# Altium footprint library __ui.PcbLib: 90 footprints (part 3 of 6)
Each footprint in its own frame and in the unit in brackets; x right, y up, seen from the top. Pads: shape width x height; smd on the part's side, far side on the other; paste and mask are expansions set on the pad; w line width, h text height; cw(c..) or ccw(c..) is an arc to the next point about the centre after c.
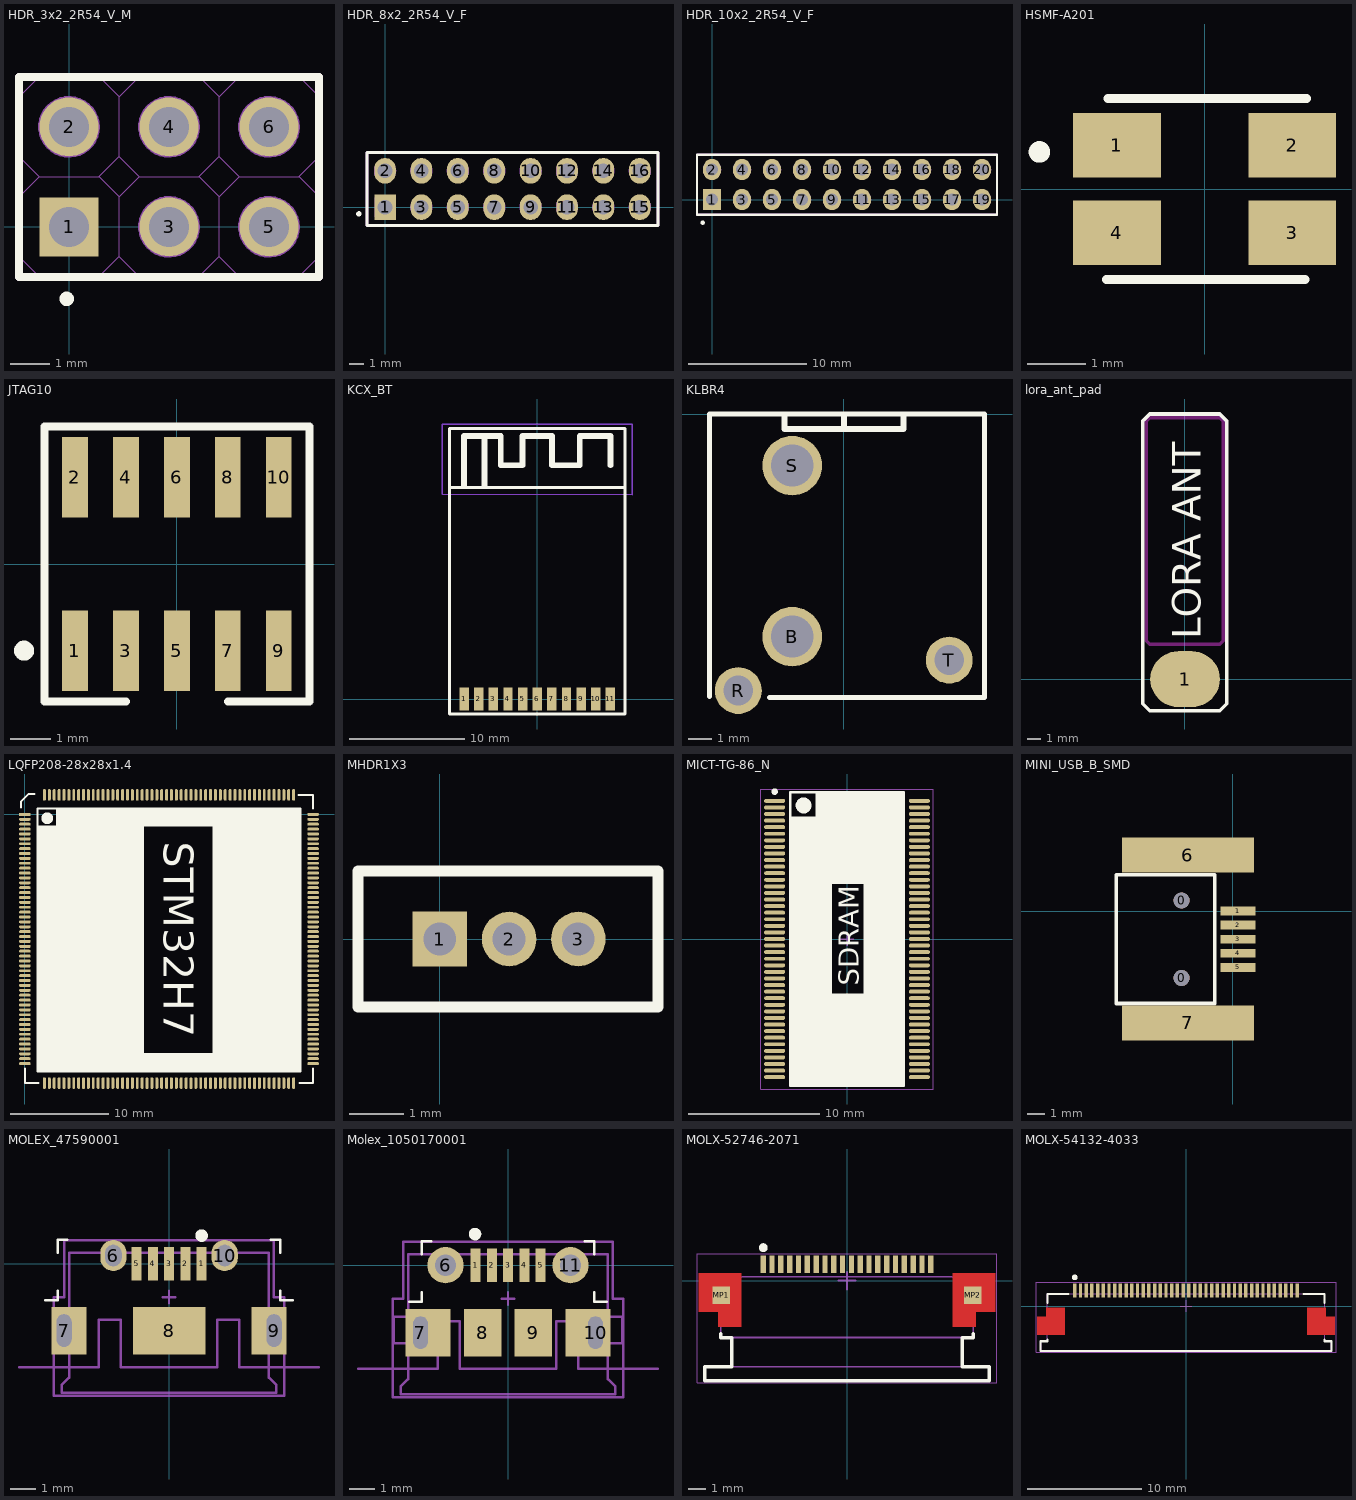
[diagram p2: the footprints below, top view; thin cyan lines are the x and y axes]

## HDR_3x2_2R54_V_M [mm] "Male Header, Pitch 2.54mm, 2x3 Position, Mated Height 6mm, Tail Length 3mm"
height 6
pads (6):
  rect 1.5x1.5 hole 1.02: 1(0,0)
  round 1.5 hole 1.02: 2(0,2.54) 3(2.54,0) 4(2.54,2.54) 5(5.08,0) 6(5.08,2.54)
Top Overlay:
  circle w0.25: c-0.059,-1.829 r0.059
  lines w0.2: -1.27,-1.27 -1.27,3.81 6.35,3.81 6.35,-1.27 -1.27,-1.27
Mechanical 7:
  circle w0.2: c2.54,0 r0.684
  circle w0.2: c5.08,0 r0.684
  circle w0.2: c5.08,2.54 r0.684
  circle w0.2: c2.54,2.54 r0.684
  circle w0.2: c0,2.54 r0.684
  lines w0.2: -1.27,-1.27 -1.27,3.81 6.35,3.81 6.35,-1.27 -1.27,-1.27 ; -0.635,-0.635 -0.635,0.635 0.635,0.635 0.635,-0.635 -0.635,-0.635
Mechanical 13:
  lines w0.025: 6.35,-0.762 5.842,-1.27 ; 6.35,0.762 5.842,1.27 ; 6.35,1.778 5.842,1.27 ; 6.35,3.302 5.842,3.81 4.318,3.81 3.81,3.302 ; -1.27,-0.762 -1.27,0.762 ; -1.27,-0.762 -1.27,0.762 ; -1.27,-0.762 -0.762,-1.27 ; -1.27,0.762 -0.762,1.27 ; -1.27,1.778 -0.762,1.27 ; -1.27,1.778 -1.27,3.302 ; -1.27,1.778 -1.27,3.302 ; -1.27,3.302 -0.762,3.81 0.762,3.81 1.27,3.302 ; -0.762,-1.27 0.762,-1.27 ; -0.762,-1.27 0.762,-1.27 ; -0.762,1.27 0.762,1.27 ; -0.762,1.27 0.762,1.27 ; -0.762,1.27 0.762,1.27 ; 0.762,-1.27 1.27,-0.762 ; 0.762,1.27 1.27,0.762 ; 0.762,1.27 1.27,1.778 ; 1.27,-0.762 1.27,0.762 ; 1.27,-0.762 1.27,0.762 ; 1.27,-0.762 1.27,0.762 ; 1.27,-0.762 1.27,0.762 ; 1.27,-0.762 1.778,-1.27 ; 1.27,0.762 1.778,1.27 ; 1.27,1.778 1.778,1.27 ; 1.27,1.778 1.27,3.302 ; 1.27,1.778 1.27,3.302 ; 1.27,1.778 1.27,3.302 ; 1.27,1.778 1.27,3.302 ; 1.27,3.302 1.778,3.81 3.302,3.81 3.81,3.302 ; 1.778,-1.27 3.302,-1.27 ; 1.778,-1.27 3.302,-1.27 ; 1.778,1.27 3.302,1.27 ; 1.778,1.27 3.302,1.27 ; 1.778,1.27 3.302,1.27 ; 3.302,-1.27 3.81,-0.762 ; 3.302,1.27 3.81,0.762 ; 3.302,1.27 3.81,1.778 ; 3.81,-0.762 3.81,0.762 ; 3.81,-0.762 3.81,0.762 ; 3.81,-0.762 3.81,0.762 ; 3.81,-0.762 3.81,0.762 ; 3.81,-0.762 4.318,-1.27 ; 3.81,0.762 4.318,1.27 ; 3.81,1.778 4.318,1.27 ; 3.81,1.778 3.81,3.302 ; 3.81,1.778 3.81,3.302 ; 3.81,1.778 3.81,3.302 ; 3.81,1.778 3.81,3.302 ; 4.318,-1.27 5.842,-1.27 ; 4.318,-1.27 5.842,-1.27 ; 4.318,1.27 5.842,1.27 ; 4.318,1.27 5.842,1.27 ; 4.318,1.27 5.842,1.27
3D body: height 2.54, standoff 0, extent -1.27,-1.27 1.27,1.27
3D body: height 2.54, standoff 0, extent 1.27,-1.27 3.81,1.27
3D body: height 2.54, standoff 0, extent 3.81,-1.27 6.35,1.27
3D body: height 2.54, standoff 0, extent 3.81,1.27 6.35,3.81
3D body: height 2.54, standoff 0, extent 1.27,1.27 3.81,3.81
3D body: height 2.54, standoff 0, extent -1.27,1.27 1.27,3.81
3D body: height 9, standoff -2.54, extent -0.349,-0.349 0.349,0.349
3D body: height 9, standoff -2.54, extent 2.191,-0.349 2.889,0.349
3D body: height 9, standoff -2.54, extent 4.731,-0.349 5.429,0.349
3D body: height 9, standoff -2.54, extent -0.349,2.191 0.349,2.889
3D body: height 9, standoff -2.54, extent 2.191,2.191 2.889,2.889
3D body: height 9, standoff -2.54, extent 4.731,2.191 5.429,2.889

## HDR_8x2_2R54_V_F [mm] "Female Header, Pitch 2.54mm, 2x8 Position, Mated Height 6mm, Tail Length 3mm"
height 6
pads (16):
  rect 1.5x1.8 hole 1.02: 1(0,0)
  oval 1.5x1.8 hole 1.02: 2(0,2.54) 3(2.54,0) 4(2.54,2.54) 5(5.08,0) 6(5.08,2.54) 7(7.62,0) 8(7.62,2.54) 9(10.16,0) 10(10.16,2.54) 11(12.7,0) 12(12.7,2.54) 13(15.24,0) 14(15.24,2.54) 15(17.78,0) 16(17.78,2.54)
Top Overlay:
  circle w0.25: c-1.829,-0.465 r0.059
  lines w0.2: -1.27,-1.27 19.05,-1.27 19.05,3.81 -1.27,3.81 -1.27,-1.27
Mechanical 7:
  circle w0.2: c0,2.54 r0.684
  circle w0.2: c2.54,2.54 r0.684
  circle w0.2: c5.08,2.54 r0.684
  circle w0.2: c7.62,2.54 r0.684
  circle w0.2: c10.16,2.54 r0.684
  circle w0.2: c12.7,2.54 r0.684
  circle w0.2: c12.7,0 r0.684
  circle w0.2: c10.16,0 r0.684
  circle w0.2: c7.62,0 r0.684
  circle w0.2: c5.08,0 r0.684
  circle w0.2: c2.54,0 r0.684
  circle w0.2: c15.24,0 r0.684
  circle w0.2: c17.78,0 r0.684
  circle w0.2: c17.78,2.54 r0.684
  circle w0.2: c15.24,2.54 r0.684
  lines w0.2: -1.27,-1.27 19.05,-1.27 19.05,3.81 -1.27,3.81 -1.27,-1.27 ; -0.635,-0.635 0.635,-0.635 0.635,0.635 -0.635,0.635 -0.635,-0.635
3D body: height 2.54, standoff -10, extent -0.349,-0.349 0.349,0.349
3D body: height 8.64, standoff 0, extent -1.268,-1.27 1.272,1.27
3D body: height 2.54, standoff -10, extent -0.349,2.191 0.349,2.889
3D body: height 8.64, standoff 0, extent -1.268,1.27 1.272,3.81
3D body: height 2.54, standoff -10, extent 2.191,2.191 2.889,2.889
3D body: height 8.64, standoff 0, extent 1.272,1.27 3.812,3.81
3D body: height 2.54, standoff -10, extent 2.191,-0.349 2.889,0.349
3D body: height 8.64, standoff 0, extent 1.272,-1.27 3.812,1.27
3D body: height 2.54, standoff -10, extent 4.731,2.191 5.429,2.889
3D body: height 8.64, standoff 0, extent 3.812,1.27 6.352,3.81
3D body: height 2.54, standoff -10, extent 4.731,-0.349 5.429,0.349
3D body: height 8.64, standoff 0, extent 3.812,-1.27 6.352,1.27
3D body: height 2.54, standoff -10, extent 7.271,2.191 7.969,2.889
3D body: height 8.64, standoff 0, extent 6.352,1.27 8.892,3.81
3D body: height 2.54, standoff -10, extent 7.271,-0.349 7.969,0.349
3D body: height 8.64, standoff 0, extent 6.352,-1.27 8.892,1.27
3D body: height 2.54, standoff -10, extent 9.811,-0.349 10.509,0.349
3D body: height 8.64, standoff 0, extent 8.892,-1.27 11.432,1.27
3D body: height 2.54, standoff -10, extent 9.811,2.191 10.509,2.889
3D body: height 8.64, standoff 0, extent 8.892,1.27 11.432,3.81
3D body: height 2.54, standoff -10, extent 12.351,2.191 13.049,2.889
3D body: height 8.64, standoff 0, extent 11.432,1.27 13.972,3.81
3D body: height 2.54, standoff -10, extent 12.351,-0.349 13.049,0.349
3D body: height 8.64, standoff 0, extent 11.432,-1.27 13.972,1.27
3D body: height 8.64, standoff 0, extent 16.512,-1.27 19.052,1.27
3D body: height 2.54, standoff -10, extent 17.431,-0.349 18.129,0.349
3D body: height 8.64, standoff 0, extent 16.512,1.27 19.052,3.81
3D body: height 2.54, standoff -10, extent 17.431,2.191 18.129,2.889
3D body: height 8.64, standoff 0, extent 13.972,1.27 16.512,3.81
3D body: height 2.54, standoff -10, extent 14.891,2.191 15.589,2.889
3D body: height 8.64, standoff 0, extent 13.972,-1.27 16.512,1.27
3D body: height 2.54, standoff -10, extent 14.891,-0.349 15.589,0.349

## HDR_10x2_2R54_V_F [mm] "Female Header, Pitch 2.54mm, 2x8 Position, Mated Height 6mm, Tail Length 3mm"
height 6
pads (20):
  rect 1.5x1.8 hole 1.02: 1(0,0)
  oval 1.5x1.8 hole 1.02: 2(0,2.54) 3(2.54,0) 4(2.54,2.54) 5(5.08,0) 6(5.08,2.54) 7(7.62,0) 8(7.62,2.54) 9(10.16,0) 10(10.16,2.54) 11(12.7,0) 12(12.7,2.54) 13(15.24,0) 14(15.24,2.54) 15(17.78,0) 16(17.78,2.54) 17(20.32,0) 18(20.32,2.54) 19(22.86,0) 20(22.86,2.54)
Top Overlay:
  circle w0.25: c-0.787,-1.96 r0.059
  lines w0.2: -1.27,-1.27 24.13,-1.27 24.13,3.81 -1.27,3.81 -1.27,-1.27
Mechanical 7:
  circle w0.2: c22.86,0 r0.684
  circle w0.2: c22.86,2.54 r0.684
  circle w0.2: c0,2.54 r0.684
  circle w0.2: c2.54,2.54 r0.684
  circle w0.2: c5.08,2.54 r0.684
  circle w0.2: c7.62,2.54 r0.684
  circle w0.2: c10.16,2.54 r0.684
  circle w0.2: c12.7,2.54 r0.684
  circle w0.2: c12.7,0 r0.684
  circle w0.2: c10.16,0 r0.684
  circle w0.2: c7.62,0 r0.684
  circle w0.2: c5.08,0 r0.684
  circle w0.2: c2.54,0 r0.684
  circle w0.2: c15.24,0 r0.684
  circle w0.2: c17.78,0 r0.684
  circle w0.2: c17.78,2.54 r0.684
  circle w0.2: c15.24,2.54 r0.684
  circle w0.2: c20.32,2.54 r0.684
  circle w0.2: c20.32,0 r0.684
  lines w0.2: -1.27,-1.27 24.13,-1.27 24.13,3.81 -1.27,3.81 -1.27,-1.27 ; -0.635,-0.635 0.635,-0.635 0.635,0.635 -0.635,0.635 -0.635,-0.635
3D body: height 8.64, standoff 0, extent 21.592,-1.27 24.132,1.27
3D body: height 2.54, standoff -10, extent 22.511,-0.349 23.209,0.349
3D body: height 8.64, standoff 0, extent 21.592,1.27 24.132,3.81
3D body: height 2.54, standoff -10, extent 22.511,2.191 23.209,2.889
3D body: height 2.54, standoff -10, extent -0.349,-0.349 0.349,0.349
3D body: height 8.64, standoff 0, extent -1.268,-1.27 1.272,1.27
3D body: height 2.54, standoff -10, extent -0.349,2.191 0.349,2.889
3D body: height 8.64, standoff 0, extent -1.268,1.27 1.272,3.81
3D body: height 2.54, standoff -10, extent 2.191,2.191 2.889,2.889
3D body: height 8.64, standoff 0, extent 1.272,1.27 3.812,3.81
3D body: height 2.54, standoff -10, extent 2.191,-0.349 2.889,0.349
3D body: height 8.64, standoff 0, extent 1.272,-1.27 3.812,1.27
3D body: height 2.54, standoff -10, extent 4.731,2.191 5.429,2.889
3D body: height 8.64, standoff 0, extent 3.812,1.27 6.352,3.81
3D body: height 2.54, standoff -10, extent 4.731,-0.349 5.429,0.349
3D body: height 8.64, standoff 0, extent 3.812,-1.27 6.352,1.27
3D body: height 2.54, standoff -10, extent 7.271,2.191 7.969,2.889
3D body: height 8.64, standoff 0, extent 6.352,1.27 8.892,3.81
3D body: height 2.54, standoff -10, extent 7.271,-0.349 7.969,0.349
3D body: height 8.64, standoff 0, extent 6.352,-1.27 8.892,1.27
3D body: height 2.54, standoff -10, extent 9.811,-0.349 10.509,0.349
3D body: height 8.64, standoff 0, extent 8.892,-1.27 11.432,1.27
3D body: height 2.54, standoff -10, extent 9.811,2.191 10.509,2.889
3D body: height 8.64, standoff 0, extent 8.892,1.27 11.432,3.81
3D body: height 2.54, standoff -10, extent 12.351,2.191 13.049,2.889
3D body: height 8.64, standoff 0, extent 11.432,1.27 13.972,3.81
3D body: height 2.54, standoff -10, extent 12.351,-0.349 13.049,0.349
3D body: height 8.64, standoff 0, extent 11.432,-1.27 13.972,1.27
3D body: height 8.64, standoff 0, extent 16.512,-1.27 19.052,1.27
3D body: height 2.54, standoff -10, extent 17.431,-0.349 18.129,0.349
3D body: height 8.64, standoff 0, extent 16.512,1.27 19.052,3.81
3D body: height 2.54, standoff -10, extent 17.431,2.191 18.129,2.889
3D body: height 8.64, standoff 0, extent 13.972,1.27 16.512,3.81
3D body: height 2.54, standoff -10, extent 14.891,2.191 15.589,2.889
3D body: height 8.64, standoff 0, extent 13.972,-1.27 16.512,1.27
3D body: height 2.54, standoff -10, extent 14.891,-0.349 15.589,0.349
3D body: height 2.54, standoff -10, extent 19.971,2.191 20.669,2.889
3D body: height 8.64, standoff 0, extent 19.052,1.27 21.592,3.81
3D body: height 2.54, standoff -10, extent 19.971,-0.349 20.669,0.349
3D body: height 8.64, standoff 0, extent 19.052,-1.27 21.592,1.27

## HSMF-A201 [mm] "LED"
height 1.2
pads (4):
  rect 1.5x1.1 smd: 1(-1.5,0.75) 2(1.5,0.75) 3(1.5,-0.75) 4(-1.5,-0.75)
Top Overlay:
  circle w0.25: c-2.827,0.635 r0.059
  lines w0.152: -1.676,-1.549 1.724,-1.549 ; -1.651,1.549 1.749,1.549
3D body: height 1.2, standoff 0.1, extent -1.6,-1.4 1.6,1.4

## JTAG10 [mm]
height 6
pads (10):
  rect 0.64x2 smd: 1(-2.54,-2.159) 2(-2.54,2.159) 3(-1.27,-2.159) 4(-1.27,2.159) 5(0,-2.159) 6(0,2.159) 7(1.27,-2.159) 8(1.27,2.159) 9(2.54,-2.159) 10(2.54,2.159)
Top Overlay:
  circle w0.25: c-3.81,-2.159 r0.125
  lines w0.2: -1.27,-3.429 -1.905,-3.429 -3.302,-3.429 -3.302,3.429 3.302,3.429 3.302,-3.429 1.27,-3.429

## KCX_BT [mm]
pads (11):
  rect 0.813x2 smd: 1(-6.352,0.034) 2(-5.082,0.034) 3(-3.812,0.034) 4(-2.542,0.034) 5(-1.272,0.034) 6(-0.002,0.034) 7(1.268,0.034) 8(2.538,0.034) 9(3.808,0.034) 10(5.078,0.034) 11(6.348,0.034)
Top Layer keep-out:
  lines w0.127: -8.255,17.782 8.255,17.776 8.255,23.869 -8.255,23.875 -8.255,17.782
Bottom Layer keep-out:
  lines w0.127: -8.255,17.782 8.255,17.776 8.255,23.869 -8.255,23.875 -8.255,17.782
Top Overlay:
  lines w0.254: -7.62,18.391 7.62,18.391 ; -7.62,-1.27 7.62,-1.27 7.62,17.941 7.62,20.135 7.62,23.495 -7.62,23.495 -7.62,21.185 -7.62,16.637 -7.62,0.254 -7.62,-1.27
  lines w0.508: -6.35,18.542 -6.35,22.86 -3.175,22.86 -3.175,20.32 -1.27,20.32 -1.27,22.86 1.27,22.86 1.27,20.32 3.683,20.32 3.683,22.86 4.953,22.86 ; -4.572,18.542 -4.572,22.86 ; 4.445,22.86 6.35,22.86 6.35,20.32
Keep-Out Layer:
  region: -13.335,24.765

## KLBR4 [mm] "Lumberg KLBR4 phones receptacle"
height 6
pads (4):
  round 2.54 hole 1.8: B(-2.2,-9.5) S(-2.2,-2.2)
  round 2 hole 1.27: R(-4.5,-11.8) T(4.5,-10.5)
Top Overlay:
  lines w0.2: -5.729,-12.065 -5.729,0 ; -3.175,-12.092 6,-12.092 6,0 ; -5.729,0 6,0 ; -5.729,0 6,0
  lines w0.254: -2.54,-0.125 -2.54,-0.635 2.54,-0.635 2.54,-0.051 ; 0,-0.635 0,-0.06

## lora_ant_pad [mm]
pads (1):
  oval 5x4 smd: 1(0.022,0.006)
Top Overlay:
  lines w0.254: -3,-1.75 -2.5,-2.25 2.5,-2.25 3,-1.75 3,18.5 2.5,19 -2.5,19 -3,18.5 -3,-1.75
  text "LORA ANT" at 1.144,2.856 h2.03
Keep-Out Layer:
  lines w0.254: -2.75,2.75 -2.75,18.5 -2.5,18.75 2.5,18.75 2.75,18.5 2.75,2.75 2.5,2.5 -2.5,2.5 -2.75,2.75

## LQFP208-28x28x1.4 [mm]
pads (208):
  rect 1.2x0.3 smd: 1(0,0)
  oval 1.2x0.3 smd: 2(0,-0.5) 3(0,-1) 4(0,-1.5) 5(0,-2) 6(0,-2.5) 7(0,-3) 8(0,-3.5) 9(0,-4) 10(0,-4.5) 11(0,-5) 12(0,-5.5) 13(0,-6) 14(0,-6.5) 15(0,-7) 16(0,-7.5) 17(0,-8) 18(0,-8.5) 19(0,-9) 20(0,-9.5) 21(0,-10) 22(0,-10.5) 23(0,-11) 24(0,-11.5) 25(0,-12) 26(0,-12.5) 27(0,-13) 28(0,-13.5) 29(0,-14) 30(0,-14.5) 31(0,-15) 32(0,-15.5) 33(0,-16) 34(0,-16.5) 35(0,-17) 36(0,-17.5) 37(0,-18) 38(0,-18.5) 39(0,-19) 40(0,-19.5) 41(0,-20) 42(0,-20.5) 43(0,-21) 44(0,-21.5) 45(0,-22) 46(0,-22.5) 47(0,-23) 48(0,-23.5) 49(0,-24) 50(0,-24.5) 51(0,-25) 52(0,-25.5) 105(29.5,-25.5) 106(29.5,-25) 107(29.5,-24.5) 108(29.5,-24) 109(29.5,-23.5) 110(29.5,-23) 111(29.5,-22.5) 112(29.5,-22) 113(29.5,-21.5) 114(29.5,-21) 115(29.5,-20.5) 116(29.5,-20) 117(29.5,-19.5) 118(29.5,-19) 119(29.5,-18.5) 120(29.5,-18) 121(29.5,-17.5) 122(29.5,-17) 123(29.5,-16.5) 124(29.5,-16) 125(29.5,-15.5) 126(29.5,-15) 127(29.5,-14.5) 128(29.5,-14) 129(29.5,-13.5) 130(29.5,-13) 131(29.5,-12.5) 132(29.5,-12) 133(29.5,-11.5) 134(29.5,-11) 135(29.5,-10.5) 136(29.5,-10) 137(29.5,-9.5) 138(29.5,-9) 139(29.5,-8.5) 140(29.5,-8) 141(29.5,-7.5) 142(29.5,-7) 143(29.5,-6.5) 144(29.5,-6) 145(29.5,-5.5) 146(29.5,-5) 147(29.5,-4.5) 148(29.5,-4) 149(29.5,-3.5) 150(29.5,-3) 151(29.5,-2.5) 152(29.5,-2) 153(29.5,-1.5) 154(29.5,-1) 155(29.5,-0.5) 156(29.5,0)
  oval 0.3x1.2 smd: 53(2,-27.5) 54(2.5,-27.5) 55(3,-27.5) 56(3.5,-27.5) 57(4,-27.5) 58(4.5,-27.5) 59(5,-27.5) 60(5.5,-27.5) 61(6,-27.5) 62(6.5,-27.5) 63(7,-27.5) 64(7.5,-27.5) 65(8,-27.5) 66(8.5,-27.5) 67(9,-27.5) 68(9.5,-27.5) 69(10,-27.5) 70(10.5,-27.5) 71(11,-27.5) 72(11.5,-27.5) 73(12,-27.5) 74(12.5,-27.5) 75(13,-27.5) 76(13.5,-27.5) 77(14,-27.5) 78(14.5,-27.5) 79(15,-27.5) 80(15.5,-27.5) 81(16,-27.5) 82(16.5,-27.5) 83(17,-27.5) 84(17.5,-27.5) 85(18,-27.5) 86(18.5,-27.5) 87(19,-27.5) 88(19.5,-27.5) 89(20,-27.5) 90(20.5,-27.5) 91(21,-27.5) 92(21.5,-27.5) 93(22,-27.5) 94(22.5,-27.5) 95(23,-27.5) 96(23.5,-27.5) 97(24,-27.5) 98(24.5,-27.5) 99(25,-27.5) 100(25.5,-27.5) 101(26,-27.5) 102(26.5,-27.5) 103(27,-27.5) 104(27.5,-27.5) 157(27.5,2) 158(27,2) 159(26.5,2) 160(26,2) 161(25.5,2) 162(25,2) 163(24.5,2) 164(24,2) 165(23.5,2) 166(23,2) 167(22.5,2) 168(22,2) 169(21.5,2) 170(21,2) 171(20.5,2) 172(20,2) 173(19.5,2) 174(19,2) 175(18.5,2) 176(18,2) 177(17.5,2) 178(17,2) 179(16.5,2) 180(16,2) 181(15.5,2) 182(15,2) 183(14.5,2) 184(14,2) 185(13.5,2) 186(13,2) 187(12.5,2) 188(12,2) 189(11.5,2) 190(11,2) 191(10.5,2) 192(10,2) 193(9.5,2) 194(9,2) 195(8.5,2) 196(8,2) 197(7.5,2) 198(7,2) 199(6.5,2) 200(6,2) 201(5.5,2) 202(5,2) 203(4.5,2) 204(4,2) 205(3.5,2) 206(3,2) 207(2.5,2) 208(2,2)
Top Overlay:
  circle w0.6: c2.288,-0.391 r0.3
  rectangle: 19.177,-26.145 28.131,-0.999
  rectangle: 3.175,-26.264 28.194,-24.409
  rectangle: 3.175,-1.245 28.194,0.61
  rectangle: 1.27,-26.289 12.192,-1.143
  lines w0.2: -0.403,0.705 -0.403,1.305 0.397,2.105 0.997,2.105 ; 0,-27.5 1.4,-27.5 ; 0,-27.4 0,-26 ; 28,2 29.4,2 ; 28.1,-27.5 29.5,-27.5 ; 29.5,-27.4 29.5,-26 ; 29.5,0.6 29.5,2 ; 1.288,-26.289 28.194,-26.289 28.194,0.609 1.288,0.609 1.288,-26.289
  text "STM32H7" at 14.224,-2.794 h3.05

## MHDR1X3 [mm] "Connector; Header; 3 Position"
pads (3):
  rect 1x1 hole 0.6: 1(0,0)
  round 1 hole 0.6: 2(1.27,0) 3(2.54,0)
Top Overlay:
  lines w0.2: -1.5,-1.25 -1.5,1.25 4,1.25 4,-1.25 -1.5,-1.25

## MICT-TG-86_N [mm] "SOP, 86-Leads, Body 22.22x10.16mm, Pitch 0.5mm, IPC Medium Density"
height 1.2
pads (86):
  oval 1.6x0.3 smd: 1(-5.5,10.5) 2(-5.5,10) 3(-5.5,9.5) 4(-5.5,9) 5(-5.5,8.5) 6(-5.5,8) 7(-5.5,7.5) 8(-5.5,7) 9(-5.5,6.5) 10(-5.5,6) 11(-5.5,5.5) 12(-5.5,5) 13(-5.5,4.5) 14(-5.5,4) 15(-5.5,3.5) 16(-5.5,3) 17(-5.5,2.5) 18(-5.5,2) 19(-5.5,1.5) 20(-5.5,1) 21(-5.5,0.5) 22(-5.5,0) 23(-5.5,-0.5) 24(-5.5,-1) 25(-5.5,-1.5) 26(-5.5,-2) 27(-5.5,-2.5) 28(-5.5,-3) 29(-5.5,-3.5) 30(-5.5,-4) 31(-5.5,-4.5) 32(-5.5,-5) 33(-5.5,-5.5) 34(-5.5,-6) 35(-5.5,-6.5) 36(-5.5,-7) 37(-5.5,-7.5) 38(-5.5,-8) 39(-5.5,-8.5) 40(-5.5,-9) 41(-5.5,-9.5) 42(-5.5,-10) 43(-5.5,-10.5) 44(5.5,-10.5) 45(5.5,-10) 46(5.5,-9.5) 47(5.5,-9) 48(5.5,-8.5) 49(5.5,-8) 50(5.5,-7.5) 51(5.5,-7) 52(5.5,-6.5) 53(5.5,-6) 54(5.5,-5.5) 55(5.5,-5) 56(5.5,-4.5) 57(5.5,-4) 58(5.5,-3.5) 59(5.5,-3) 60(5.5,-2.5) 61(5.5,-2) 62(5.5,-1.5) 63(5.5,-1) 64(5.5,-0.5) 65(5.5,0) 66(5.5,0.5) 67(5.5,1) 68(5.5,1.5) 69(5.5,2) 70(5.5,2.5) 71(5.5,3) 72(5.5,3.5) 73(5.5,4) 74(5.5,4.5) 75(5.5,5) 76(5.5,5.5) 77(5.5,6) 78(5.5,6.5) 79(5.5,7) 80(5.5,7.5) 81(5.5,8) 82(5.5,8.5) 83(5.5,9) 84(5.5,9.5) 85(5.5,10) 86(5.5,10.5)
Top Overlay:
  circle w0.6: c-3.3,10.15 r0.3
  circle w0.25: c-5.5,11.2 r0.125
  rectangle: -2.413,9.296 4.318,11.151
  rectangle: -4.267,-11.125 -1.143,9.322
  rectangle: 1.27,-11.125 4.318,9.322
  rectangle: -1.346,-11.176 1.778,-4.14
  rectangle: -1.473,4.191 1.651,11.227
  lines w0.2: -4.3,-11.15 4.3,-11.15 4.3,11.15 -4.3,11.15 -4.3,-11.15
  text "SDRAM" at 0.889,-3.556 h1.52
Mechanical 15:
  lines w0.05: -6.55,-11.4 6.55,-11.4 6.55,11.4 -6.55,11.4 -6.55,-11.4
  lines w0.1: -0.5,0 0.5,0 ; 0,-0.5 0,0.5

## MINI_USB_B_SMD [mm]
pads (9):
  round 0.9 hole 0.9: 0(-2.9,-3.8) 0(-2.9,0.6)
  rect 2x0.5 smd: 1(0.3,0) 2(0.3,-0.8) 3(0.3,-1.6) 4(0.3,-2.4) 5(0.3,-3.2)
  rect 7.5x2 smd: 6(-2.54,3.175) 7(-2.54,-6.35)
Top Overlay:
  lines w0.203: -6.6,-5.25 -6.6,2.05 -1.016,2.05 -1.016,-5.25 -6.6,-5.25

## MOLEX_47590001 [mm] "USB Micro-B Connector"
height 2.667
pads (10):
  rect 0.4x1.35 smd: 1(1.3,0) 2(0.65,0) 3(0,0) 4(-0.65,0) 5(-1.3,0)
  oval 1.05x1.25 hole 0.65 slot 0.85 at 90 deg: 6(-2.225,0.325) 10(2.225,0.325)
  rect 1.4x1.9 hole 0.6 slot 1.3 at 90 deg copper offset 0.2,0: 7(-4.2,-2.675)
  rect 2.9x1.9 smd: 8(0,-2.675)
  rect 1.4x1.9 hole 0.6 slot 1.3 at 90 deg copper offset -0.2,0: 9(4.2,-2.675)
Top Overlay:
  circle w0.25: c1.304,1.122 r0.125
  lines w0.1: -4.953,-1.465 -4.445,-1.465 -4.445,-1.084 ; -4.445,0.44 -4.445,0.948 -4.064,0.948 ; 4.064,0.948 4.445,0.948 4.445,0.44 ; 4.445,-1.084 4.445,-1.465 4.953,-1.465
Mechanical 1:
  lines w0.1: -6,-4.137 -2.82,-4.137 -2.82,-2.238 -1.92,-2.238 -1.92,-4.137 0,-4.137 1.92,-4.137 1.92,-2.238 2.82,-2.238 2.82,-4.137 6,-4.137
  text "Board edge" at 5.588,-4.005 h0.2
Mechanical 13:
  lines w0.1: -4,0.442 4,0.442 ; -4,0.442 4,0.442 ; -4,0.442 -4,-2.058 -4.572,-2.058 -4.572,-3.116 -4,-3.116 -4,-4.558 -4.3,-4.858 -4.3,-5.158 4.3,-5.158 4.3,-4.858 4,-4.558 4,-3.116 4.572,-3.116 4.572,-2.058 4,-2.058 4,0.442
Mechanical 15:
  lines w0.1: -4.2,0.937 4.2,0.937 ; -4.2,0.94 -4.2,-1.338 -4.6,-1.338 -4.6,-4.137 -4.6,-5.275 4.6,-5.275 4.6,-4.137 4.6,-1.338 4.2,-1.338 4.2,0.94 ; -0.254,-1.338 0.254,-1.338 ; 0,-1.592 0,-1.084
3D body "ZX62R-B-5P.stp": height 2.71, standoff -0.23, extent -4.4,-5.291 4.4,0.44

## Molex_1050170001 [mm] "USB Micro-B Connector"
height 2.667
pads (11):
  rect 0.4x1.35 smd: 1(-1.3,0) 2(-0.65,0) 3(0,0) 4(0.65,0) 5(1.3,0)
  round 1.45 hole 0.85: 6(-2.5,0) 11(2.5,0)
  rect 1.8x1.9 hole 0.6 slot 1.3 at 90 deg copper offset 0.3,0: 7(-3.5,-2.7)
  rect 1.5x1.9 smd: 8(-1,-2.7) 9(1,-2.7)
  rect 1.8x1.9 hole 0.6 slot 1.3 at 90 deg copper offset -0.3,0: 10(3.5,-2.7)
Top Overlay:
  circle w0.25: c-1.319,1.245 r0.125
  lines w0.1: -3.953,-1.465 -3.445,-1.465 -3.445,-1.084 ; -3.445,0.44 -3.445,0.948 -3.064,0.948 ; 3.064,0.948 3.445,0.948 3.445,0.44 ; 3.445,-1.084 3.445,-1.465 3.953,-1.465
Mechanical 1:
  lines w0.1: -6,-4.137 -2.82,-4.137 -2.82,-2.238 -1.92,-2.238 -1.92,-4.137 0,-4.137 1.92,-4.137 1.92,-2.238 2.82,-2.238 2.82,-4.137 6,-4.137
  text "Board edge" at 5.588,-4.005 h0.2
Mechanical 13:
  lines w0.1: -4,0.442 -4,-2.058 -4.572,-2.058 -4.572,-3.116 -4,-3.116 -4,-4.558 -4.3,-4.858 -4.3,-5.158 4.3,-5.158 4.3,-4.858 4,-4.558 4,-3.116 4.572,-3.116 4.572,-2.058 4,-2.058 4,0.442 ; -4,0.442 4,0.442 ; -4,0.442 4,0.442
Mechanical 15:
  lines w0.1: -4.2,0.937 4.2,0.937 ; -4.2,0.94 -4.2,-1.338 -4.6,-1.338 -4.6,-4.137 -4.6,-5.275 4.6,-5.275 4.6,-4.137 4.6,-1.338 4.2,-1.338 4.2,0.94 ; -0.254,-1.338 0.254,-1.338 ; 0,-1.592 0,-1.084
3D body "1050170001.stp": height 2.58, standoff -0.72, extent -4.1,-5.207 4.1,0.193

## MOLX-52746-2071 [mm] "FPC Connector, 20-Leads, Right Angle, Pitch 0.5 mm, Mated Height 2.0 mm, SMT"
height 2.012
pads (22):
  rect 0.3x1 smd: 1(-4.75,0.924) 2(-4.25,0.924) 3(-3.75,0.924) 4(-3.25,0.924) 5(-2.75,0.924) 6(-2.25,0.924) 7(-1.75,0.924) 8(-1.25,0.924) 9(-0.75,0.924) 10(-0.25,0.924) 11(0.25,0.924) 12(0.75,0.924) 13(1.25,0.924) 14(1.75,0.924) 15(2.25,0.924) 16(2.75,0.924) 17(3.25,0.924) 18(3.75,0.924) 19(4.25,0.924) 20(4.75,0.924)
  rect 1x1 smd: MP1(-7.134,-0.824) MP2(7.134,-0.824)
Top Layer:
  region: -8.4,0.424 -6,0.424 -6,-2.626 -7.3,-2.626 -7.3,-1.777 -7.3,-1.776 -8.4,-1.776
  region: 6,0.424 8.4,0.424 8.4,-1.776 8.4,-1.777 7.3,-1.777 7.3,-2.626 6,-2.626
Top Overlay:
  circle w0.25: c-4.743,1.867 r0.125
  lines w0.2: -7.15,-3.026 -7.15,-3.226 -6.525,-3.226 ; -6.525,-3.239 -6.525,-4.876 -8.05,-4.877 -8.05,-5.676 8.05,-5.676 8.05,-4.876 6.525,-4.876 6.525,-3.226 7.15,-3.226 7.15,-3.026
Mechanical 13:
  lines w0.1: -8.05,-4.876 -6.4,-4.876 6.4,-4.876 8.05,-4.876 8.05,-5.677 -8.05,-5.677 -8.05,-4.877 ; -6.525,-4.876 -6.525,-3.226 ; 6.525,-4.876 6.525,-3.226 ; -7.15,-3.226 -7.15,0.224 7.15,0.224 7.15,-3.226 6.4,-3.226 -6.4,-3.226 -7.15,-3.226
Mechanical 15:
  lines w0.05: -8.5,-5.777 8.5,-5.777 8.5,1.524 -8.5,1.524 -8.5,-5.777
  lines w0.1: -0.5,0 0.5,0 ; 0,-0.5 0,0.5

## MOLX-54132-4033 [mm] "FPC Connector, 40-Leads, Right Angle, Pitch 0.5 mm, Mated Height 2.0 mm, SMT"
height 2.002
pads (40):
  rect 0.3x1.2 smd: 1(-9.75,1.375) 2(-9.25,1.375) 3(-8.75,1.375) 4(-8.25,1.375) 5(-7.75,1.375) 6(-7.25,1.375) 7(-6.75,1.375) 8(-6.25,1.375) 9(-5.75,1.375) 10(-5.25,1.375) 11(-4.75,1.375) 12(-4.25,1.375) 13(-3.75,1.375) 14(-3.25,1.375) 15(-2.75,1.375) 16(-2.25,1.375) 17(-1.75,1.375) 18(-1.25,1.375) 19(-0.75,1.375) 20(-0.25,1.375) 21(0.25,1.375) 22(0.75,1.375) 23(1.25,1.375) 24(1.75,1.375) 25(2.25,1.375) 26(2.75,1.375) 27(3.25,1.375) 28(3.75,1.375) 29(4.25,1.375) 30(4.75,1.375) 31(5.25,1.375) 32(5.75,1.375) 33(6.25,1.375) 34(6.75,1.375) 35(7.25,1.375) 36(7.75,1.375) 37(8.25,1.375) 38(8.75,1.375) 39(9.25,1.375) 40(9.75,1.375)
Top Layer:
  region: -10.65,-0.125 -12.25,-0.125 -12.25,-0.925 -13.05,-0.925 -13.05,-2.525 -10.65,-2.525
  region: 10.65,-0.125 12.25,-0.125 12.25,-0.925 13.05,-0.925 13.05,-2.525 10.65,-2.525
Top Overlay:
  circle w0.25: c-9.75,2.525 r0.125
  lines w0.2: -12.15,-2.925 -12.15,-3.075 -12.75,-3.075 -12.75,-3.925 12.75,-3.925 12.75,-3.075 12.15,-3.075 12.15,-2.925 ; -12.15,0.275 -12.15,1.075 -10.3,1.075 ; 10.3,1.075 12.15,1.075 12.15,0.275
Mechanical 13:
  lines w0.1: -12.75,-3.925 12.75,-3.925 12.75,-3.075 12.15,-3.075 12.15,1.075 -12.15,1.075 -12.15,-3.075 -12.75,-3.075 -12.75,-3.925
Mechanical 15:
  lines w0.05: -13.15,-4.025 -13.15,2.075 13.15,2.075 13.15,-4.025 -13.15,-4.025
  lines w0.1: -0.5,0 0.5,0 ; 0,-0.5 0,0.5
3D body "541324033.stp": height 2, standoff 0.01, extent -12.75,-3.925 12.75,1.675